# Altium footprint library tqfp.PcbLib: 23 footprints (part 2 of 2)
Each footprint in its own frame and in the unit in brackets; x right, y up, seen from the top. Pads: shape width x height; smd on the part's side, far side on the other; paste and mask are expansions set on the pad; w line width, h text height; cw(c..) or ccw(c..) is an arc to the next point about the centre after c.
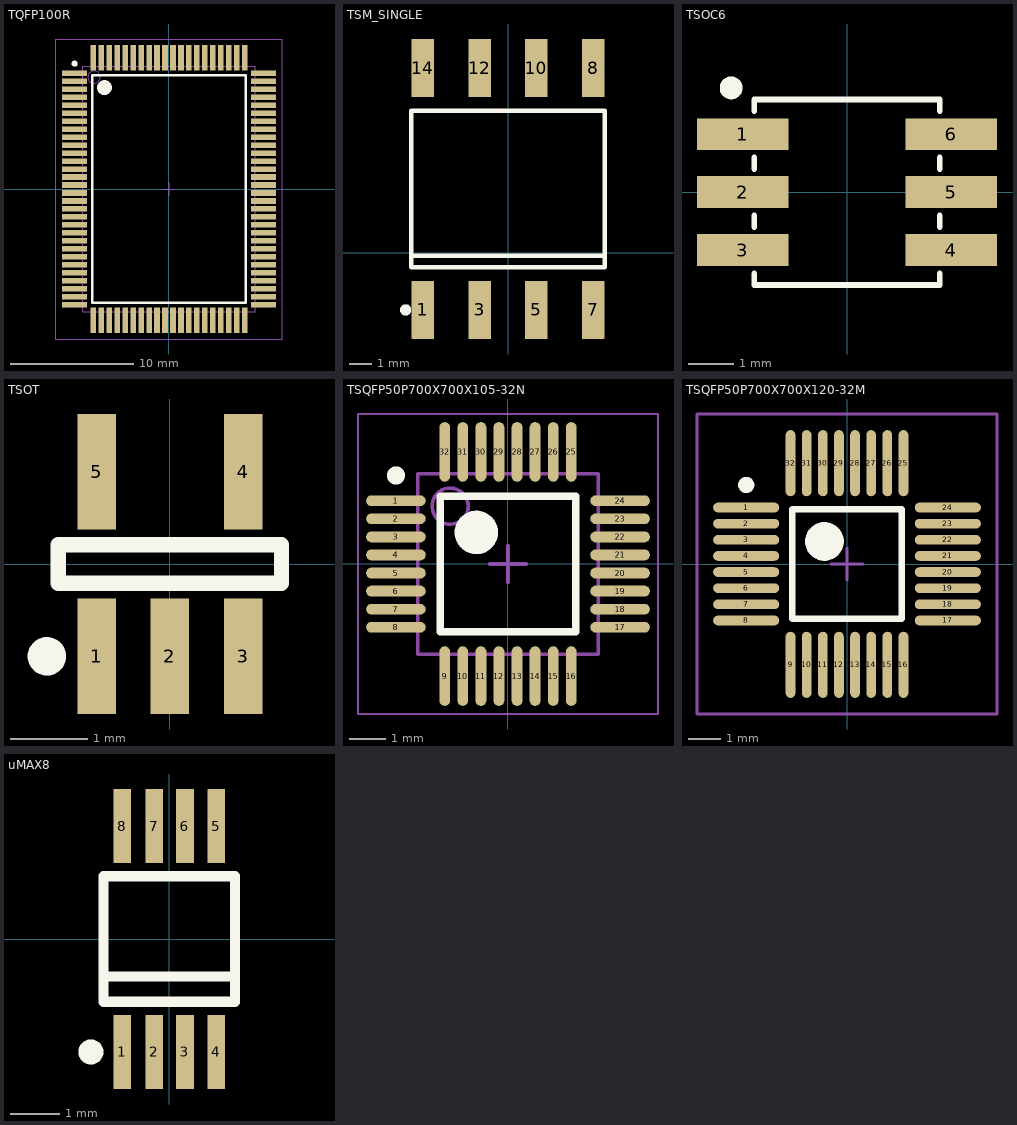
[diagram p1: the footprints below, top view; thin cyan lines are the x and y axes]

## TQFP100R [mm] "100-Pin Thin Plastic Quad Flat Pack Rectangular 0.65 mm Pitch, IPC Low Density"
height 1.6
pads (100):
  rect 2.05x0.45 smd: 1(-7.675,9.425) 2(-7.675,8.775) 3(-7.675,8.125) 4(-7.675,7.475) 5(-7.675,6.825) 6(-7.675,6.175) 7(-7.675,5.525) 8(-7.675,4.875) 9(-7.675,4.225) 10(-7.675,3.575) 11(-7.675,2.925) 12(-7.675,2.275) 13(-7.675,1.625) 14(-7.675,0.975) 15(-7.675,0.325) 16(-7.675,-0.325) 17(-7.675,-0.975) 18(-7.675,-1.625) 19(-7.675,-2.275) 20(-7.675,-2.925) 21(-7.675,-3.575) 22(-7.675,-4.225) 23(-7.675,-4.875) 24(-7.675,-5.525) 25(-7.675,-6.175) 26(-7.675,-6.825) 27(-7.675,-7.475) 28(-7.675,-8.125) 29(-7.675,-8.775) 30(-7.675,-9.425) 51(7.675,-9.425) 52(7.675,-8.775) 53(7.675,-8.125) 54(7.675,-7.475) 55(7.675,-6.825) 56(7.675,-6.175) 57(7.675,-5.525) 58(7.675,-4.875) 59(7.675,-4.225) 60(7.675,-3.575) 61(7.675,-2.925) 62(7.675,-2.275) 63(7.675,-1.625) 64(7.675,-0.975) 65(7.675,-0.325) 66(7.675,0.325) 67(7.675,0.975) 68(7.675,1.625) 69(7.675,2.275) 70(7.675,2.925) 71(7.675,3.575) 72(7.675,4.225) 73(7.675,4.875) 74(7.675,5.525) 75(7.675,6.175) 76(7.675,6.825) 77(7.675,7.475) 78(7.675,8.125) 79(7.675,8.775) 80(7.675,9.425)
  rect 0.45x2.05 smd: 31(-6.175,-10.675) 32(-5.525,-10.675) 33(-4.875,-10.675) 34(-4.225,-10.675) 35(-3.575,-10.675) 36(-2.925,-10.675) 37(-2.275,-10.675) 38(-1.625,-10.675) 39(-0.975,-10.675) 40(-0.325,-10.675) 41(0.325,-10.675) 42(0.975,-10.675) 43(1.625,-10.675) 44(2.275,-10.675) 45(2.925,-10.675) 46(3.575,-10.675) 47(4.225,-10.675) 48(4.875,-10.675) 49(5.525,-10.675) 50(6.175,-10.675) 81(6.175,10.675) 82(5.525,10.675) 83(4.875,10.675) 84(4.225,10.675) 85(3.575,10.675) 86(2.925,10.675) 87(2.275,10.675) 88(1.625,10.675) 89(0.975,10.675) 90(0.325,10.675) 91(-0.325,10.675) 92(-0.975,10.675) 93(-1.625,10.675) 94(-2.275,10.675) 95(-2.925,10.675) 96(-3.575,10.675) 97(-4.225,10.675) 98(-4.875,10.675) 99(-5.525,10.675) 100(-6.175,10.675)
Top Overlay:
  circle w0.25: c-7.675,10.2 r0.125
  circle w0.6: c-5.25,8.25 r0.3
  lines w0.2: -6.25,-9.25 -6.25,9.25 6.25,9.25 6.25,-9.25 -6.25,-9.25
Mechanical 13:
  circle w0.1: c-6.1,9.1 r0.5
  lines w0.1: -7,-10 -7,10 7,10 7,-10 -7,-10
Mechanical 15:
  lines w0.1: -0.5,0 0.5,0 ; 0,-0.5 0,0.5 ; -9.2,-12.2 -9.2,12.2 9.2,12.2 9.2,-12.2 -9.2,-12.2
3D body: height 3.45, standoff -0.08, extent -8.6,-11.6 8.6,11.6

## TSM_SINGLE [mm] "Traco Power TSM Series Single Output Models"
height 6.7
pads (8):
  rect 1x2.6 smd: 1(-3.81,-2.54) 3(-1.27,-2.54) 5(1.27,-2.54) 7(3.81,-2.54) 8(3.81,8.255) 10(1.27,8.255) 12(-1.27,8.255) 14(-3.81,8.255)
Top Overlay:
  circle w0.25: c-4.572,-2.54 r0.125
  lines w0.2: -4.318,-0.127 4.318,-0.127 ; -4.318,-0.127 -4.318,6.35 4.318,6.35 4.318,-0.127 ; -4.318,-0.127 -4.318,-0.635 4.318,-0.635 4.318,-0.127

## TSOC6 [mm] "TSOC; 6 pin; 17.8 mm2"
height 1.4
pads (6):
  rect 2x0.7 smd: 1(-2.286,1.27) 2(-2.286,0) 3(-2.286,-1.27) 4(2.286,-1.27) 5(2.286,0) 6(2.286,1.27)
Top Overlay:
  circle w0.25: c-2.538,2.286 r0.125
  lines w0.127: -2.032,-1.778 -2.032,-2.032 2.032,-2.032 2.032,-1.778 ; -2.032,-0.762 -2.032,-0.508 ; -2.032,0.508 -2.032,0.762 ; -2.032,1.778 -2.032,2.032 2.032,2.032 2.032,1.778 ; 2.032,-0.762 2.032,-0.508 ; 2.032,0.508 2.032,0.762
3D body: height 1.4, standoff 0, extent -1.905,-1.905 1.905,1.905

## TSOT [mm] "5-Lead Thin Small Outline Transistor Package"
height 1
pads (5):
  rect 0.5x1.5 smd: 1(-0.95,-1.2) 2(0,-1.2) 3(0.95,-1.2) 4(0.95,1.2) 5(-0.95,1.2)
Top Overlay:
  circle w0.25: c-1.6,-1.2 r0.125
  lines w0.2: -1.45,-0.25 -1.45,0.25 1.45,0.25 1.45,-0.25 -1.45,-0.25

## TSQFP50P700X700X105-32N [mm] "TSQFP, 32-Leads, Body 5,00x5,00mm, Pitch 0,50mm, IPC Medium Density"
height 1.05
pads (32):
  oval 1.65x0.3 smd: 1(-3.1,1.75) 2(-3.1,1.25) 3(-3.1,0.75) 4(-3.1,0.25) 5(-3.1,-0.25) 6(-3.1,-0.75) 7(-3.1,-1.25) 8(-3.1,-1.75) 17(3.1,-1.75) 18(3.1,-1.25) 19(3.1,-0.75) 20(3.1,-0.25) 21(3.1,0.25) 22(3.1,0.75) 23(3.1,1.25) 24(3.1,1.75)
  oval 0.3x1.65 smd: 9(-1.75,-3.1) 10(-1.25,-3.1) 11(-0.75,-3.1) 12(-0.25,-3.1) 13(0.25,-3.1) 14(0.75,-3.1) 15(1.25,-3.1) 16(1.75,-3.1) 25(1.75,3.1) 26(1.25,3.1) 27(0.75,3.1) 28(0.25,3.1) 29(-0.25,3.1) 30(-0.75,3.1) 31(-1.25,3.1) 32(-1.75,3.1)
Top Overlay:
  circle w0.25: c-3.1,2.45 r0.125
  circle w0.6: c-0.875,0.875 r0.3
  lines w0.2: -1.875,-1.875 -1.875,1.875 1.875,1.875 1.875,-1.875 -1.875,-1.875
Mechanical 13:
  circle w0.1: c-1.6,1.6 r0.5
  lines w0.1: -2.5,-2.5 -2.5,2.5 2.5,2.5 2.5,-2.5 -2.5,-2.5
Mechanical 15:
  lines w0.05: -4.15,-4.15 -4.15,4.15 4.15,4.15 4.15,-4.15 -4.15,-4.15
  lines w0.1: -0.5,0 0.5,0 ; 0,-0.5 0,0.5
3D body: height 1.2, standoff -0.03, extent -3.5,-3.5 3.5,3.5

## TSQFP50P700X700X120-32M [mm] "TSQFP, 32-Leads, Body 7,2x7,2mm (max), Pitch 0,50mm, IPC Low Density"
height 1.2
pads (32):
  oval 2.05x0.3 smd: 1(-3.125,1.75) 2(-3.125,1.25) 3(-3.125,0.75) 4(-3.125,0.25) 5(-3.125,-0.25) 6(-3.125,-0.75) 7(-3.125,-1.25) 8(-3.125,-1.75) 17(3.125,-1.75) 18(3.125,-1.25) 19(3.125,-0.75) 20(3.125,-0.25) 21(3.125,0.25) 22(3.125,0.75) 23(3.125,1.25) 24(3.125,1.75)
  oval 0.3x2.05 smd: 9(-1.75,-3.125) 10(-1.25,-3.125) 11(-0.75,-3.125) 12(-0.25,-3.125) 13(0.25,-3.125) 14(0.75,-3.125) 15(1.25,-3.125) 16(1.75,-3.125) 25(1.75,3.125) 26(1.25,3.125) 27(0.75,3.125) 28(0.25,3.125) 29(-0.25,3.125) 30(-0.75,3.125) 31(-1.25,3.125) 32(-1.75,3.125)
Top Overlay:
  circle w0.6: c-0.7,0.7 r0.3
  circle w0.25: c-3.125,2.45 r0.125
  lines w0.2: -1.7,-1.7 1.7,-1.7 1.7,1.7 -1.7,1.7 -1.7,-1.7
Mechanical 15:
  lines w0.1: -0.5,0 0.5,0 ; 0,-0.5 0,0.5 ; -4.65,-4.65 4.65,-4.65 4.65,4.65 -4.65,4.65 -4.65,-4.65
3D body: height 1.2, standoff -0.03, extent -3.5,-3.5 3.5,3.5

## uMAX8 [mm]
height 1.1
pads (8):
  rect 0.36x1.5 smd: 1(-0.953,-2.286) 2(-0.302,-2.286) 3(0.318,-2.286) 4(0.953,-2.286) 5(0.953,2.286) 6(0.318,2.286) 7(-0.302,2.286) 8(-0.953,2.286)
Top Overlay:
  circle w0.254: c-1.587,-2.286 r0.127
  lines w0.203: -1.333,-0.762 1.333,-0.762 ; -1.333,-1.27 1.333,-1.27 1.333,1.27 -1.206,1.27 -1.333,1.27 -1.333,-1.27
3D body: height 0.95, standoff 0, extent -1.499,-2.499 1.501,2.502